# EAGLE library part MEA8000 (library 8Bit_Parts)
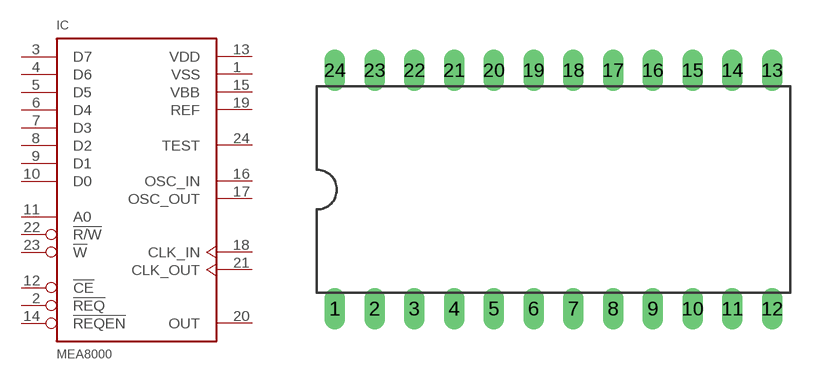
[diagram p9: symbol with the pads of DIL24-6; footprint DIL24-6]

Designator prefix IC

## MEA8000  [DIL24-6]
1  VSS  pwr
2  !REQ  in
3  D7  in
4  D6  in
5  D5  in
6  D4  in
7  D3  in
8  D2  in
9  D1  in
10  D0  in
11  A0  in
12  !CE  in
13  VDD  pwr
14  !REQEN  in
15  VBB  pwr
16  OSC_IN  in
17  OSC_OUT  out
18  CLK_IN  in
19  REF  in
20  OUT  out
21  CLK_OUT  out
22  !R/W  in
23  !W  in
24  TEST

## Footprint DIL24-6 (pad centres in mm)
Dual In Line Package 0.6 inch
drill 0.813 long: 1 -13.97,-7.62; 2 -11.43,-7.62; 3 -8.89,-7.62; 4 -6.35,-7.62; 5 -3.81,-7.62; 6 -1.27,-7.62; 7 1.27,-7.62; 8 3.81,-7.62; 9 6.35,-7.62; 10 8.89,-7.62; 11 11.43,-7.62; 12 13.97,-7.62; 13 13.97,7.62; 14 11.43,7.62; 15 8.89,7.62; 16 6.35,7.62; 17 3.81,7.62; 18 1.27,7.62; 19 -1.27,7.62; 20 -3.81,7.62; 21 -6.35,7.62; 22 -8.89,7.62; 23 -11.43,7.62; 24 -13.97,7.62